# Altium footprint library Relay_NO.PcbLib: 1 footprints
Each footprint in its own frame and in the unit in brackets; x right, y up, seen from the top. Pads: shape width x height; smd on the part's side, far side on the other; paste and mask are expansions set on the pad; w line width, h text height; cw(c..) or ccw(c..) is an arc to the next point about the centre after c.
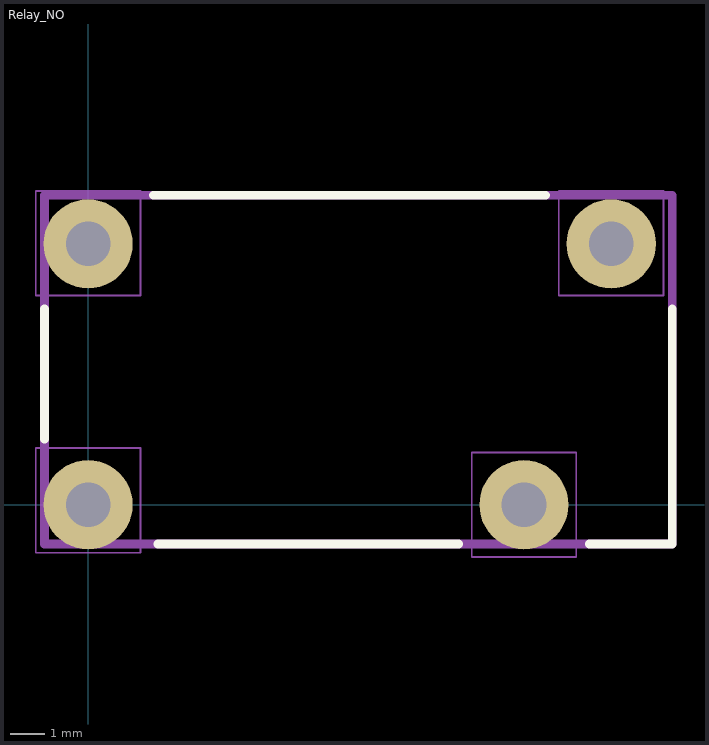
[diagram p0: the footprint, top view; thin cyan lines are the x and y axes]

## Relay_NO [mm]
pads (4):
  round 2.6 hole 1.3: ""(0,0) ""(0,7.6) ""(12.7,0) ""(15.24,7.6)
Top Overlay:
  lines w0.254: -1.27,1.905 -1.27,5.715 ; 1.905,9.017 13.335,9.017 ; 2.032,-1.143 10.795,-1.143 ; 14.605,-1.143 17.018,-1.143 17.018,-0.254 17.018,5.715
Mechanical 5:
  lines w0.05: -1.524,-1.397 -1.524,1.651 0,1.651 1.524,1.651 1.524,-1.397 -1.524,-1.397 ; -1.524,6.096 1.524,6.096 1.524,9.144 0,9.144 -1.524,9.144 -1.524,6.096 ; 11.176,-1.524 11.176,1.524 12.7,1.524 14.224,1.524 14.224,-1.524 11.176,-1.524 ; 13.716,6.096 13.716,9.144 15.24,9.144 16.764,9.144 16.764,6.096 13.716,6.096
Mechanical 7:
  lines w0.254: -1.27,-1.143 -1.27,9.017 17.018,9.017 17.018,-1.143 -1.27,-1.143
Mechanical 9:
  text ".Designator" at 2.413,3.81 h1
3D body "c-4-1419128-2-h-3d.stp": height 14.61, standoff -4.09, extent -1.226,-1.163 16.974,9.037
3D body: height 4.1, standoff 0.01, extent -1.27,-1.143 17.018,9.017